# Altium footprint library Pilot.PcbLib: 39 footprints (part 1 of 3)
Each footprint in its own frame and in the unit in brackets; x right, y up, seen from the top. Pads: shape width x height; smd on the part's side, far side on the other; paste and mask are expansions set on the pad; w line width, h text height; cw(c..) or ccw(c..) is an arc to the next point about the centre after c.
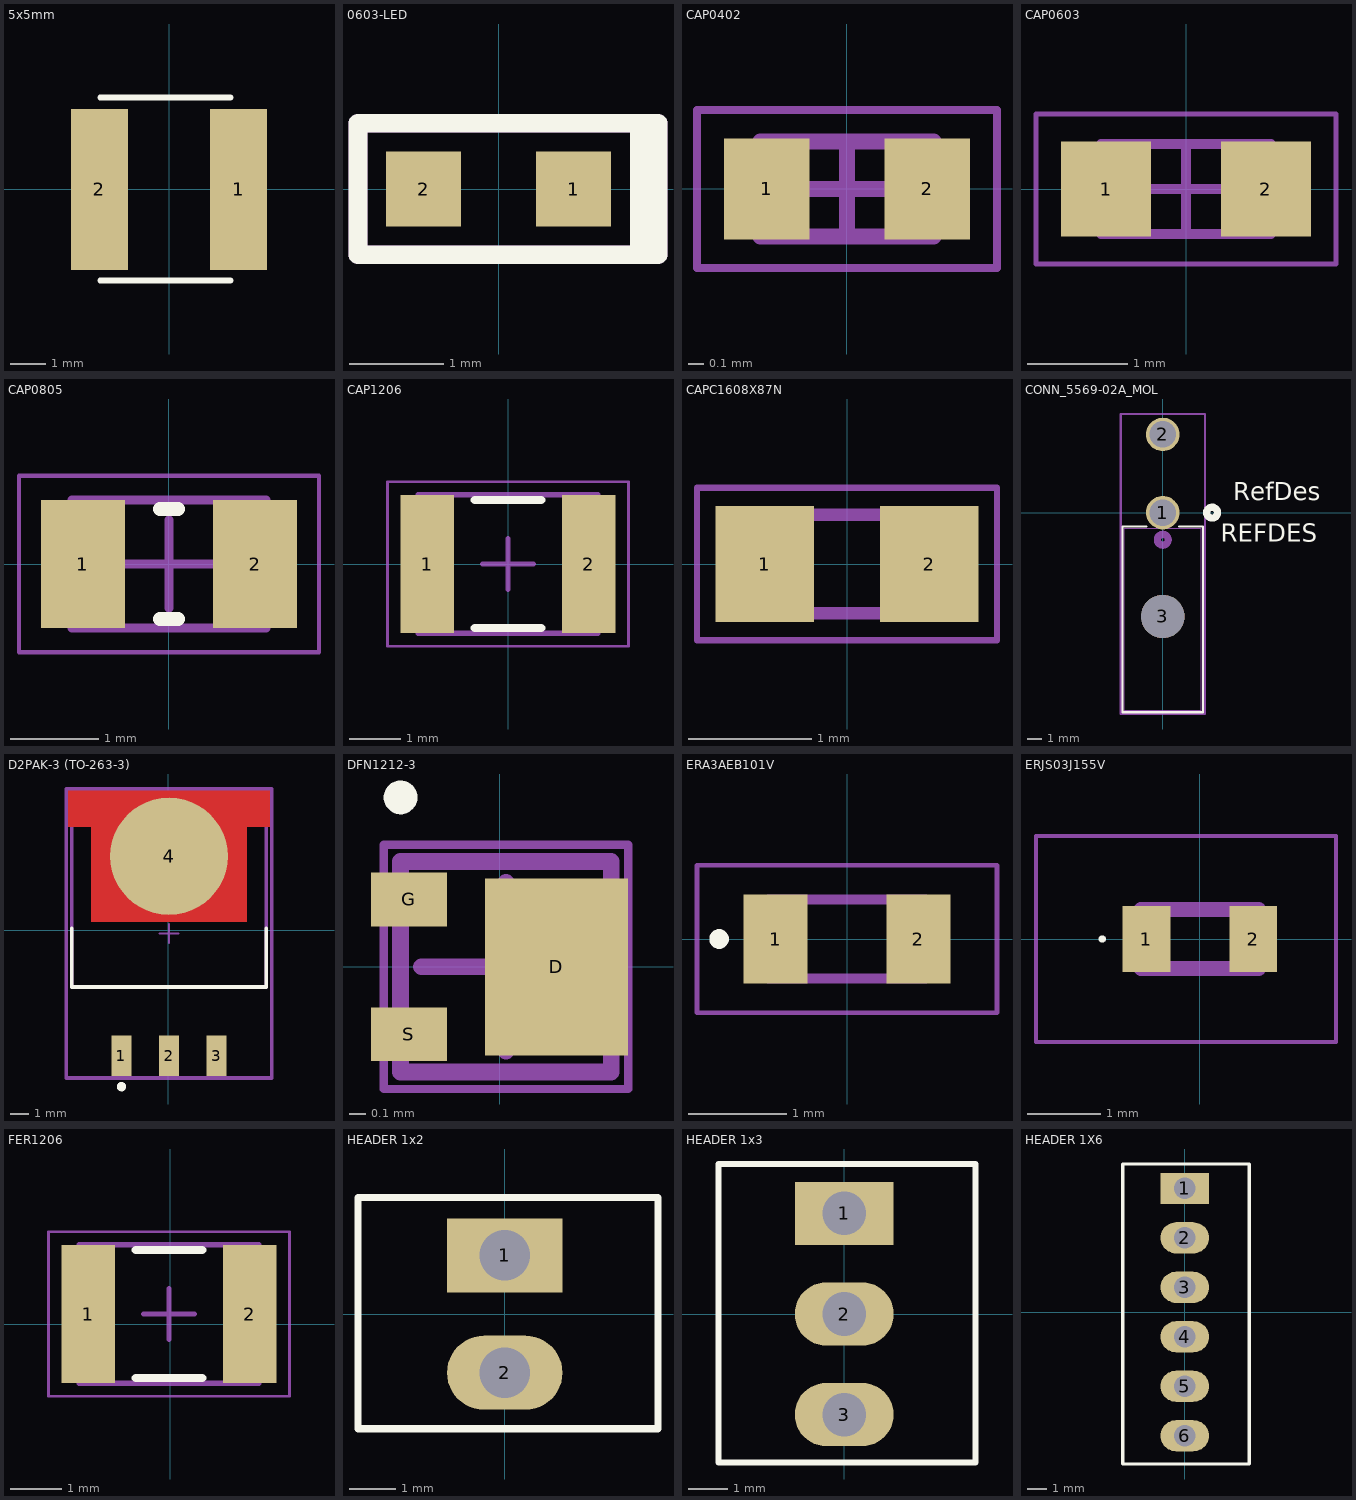
[diagram p0: the footprints below, top view; thin cyan lines are the x and y axes]

## 5x5mm [mm]
pads (2):
  rect 1.6x4.5 smd: 1(1.95,0) 2(-1.95,0)
Top Overlay:
  lines w0.16: -1.925,-2.55 1.725,-2.55 ; -1.925,2.575 1.725,2.575
3D body "Download_STP_WE-LQS-5020+(rev1).stp": height 2.01, standoff 0.01, extent -2.5,-2.5 2.5,2.5

## 0603-LED [mm]
pads (2):
  rect 0.8x0.8 smd: 1(0.8,0) 2(-0.8,0)
Top Overlay:
  rectangle: 1.4,-0.7 1.7,0.7
  lines w0.2: -1.5,-0.7 1.7,-0.7 1.7,0.7 -1.5,0.7 -1.5,-0.7
Mechanical 29:
  rectangle: 1.4,-0.7 1.7,0.7
  lines w0.2: -1.5,-0.7 1.7,-0.7 1.7,0.7 -1.5,0.7 -1.5,-0.7
  text "'.Designator'" at -1.025,-0.092 h0.7
3D body "STP_150060xS75000 (rev1).stp": height 0.7, standoff 0, extent -0.8,-0.4 0.8,0.4

## CAP0402 [mm] "Chip Capacitor, 2-Leads, Body 1.00x0.50mm, IPC Medium Density"
height 0.35
pads (2):
  rect 0.54x0.64 smd: 1(-0.508,0) 2(0.508,0)
Mechanical 13:
  lines w0.1: -0.55,-0.3 0.55,-0.3 0.55,0.3 -0.55,0.3 -0.55,-0.3
Mechanical 15:
  lines w0.05: -0.95,-0.5 0.95,-0.5 0.95,0.5 -0.95,0.5 -0.95,-0.5
  lines w0.1: -0.3,0 0.3,0 ; 0,-0.3 0,0.3
3D body "CAP0402.step": height 0.35, standoff 0, extent -0.55,-0.3 0.55,0.3

## CAP0603 [mm] "Chip Capacitor, 2-Leads, Body 1.60x0.80mm, IPC Medium Density"
height 0.55
pads (2):
  rect 0.9x0.95 smd: 1(-0.8,0) 2(0.8,0)
Mechanical 13:
  lines w0.1: -0.85,-0.45 0.85,-0.45 0.85,0.45 -0.85,0.45 -0.85,-0.45
Mechanical 15:
  lines w0.05: -1.5,-0.75 1.5,-0.75 1.5,0.75 -1.5,0.75 -1.5,-0.75
  lines w0.1: -0.45,0 0.45,0 ; 0,-0.45 0,0.45
3D body "CAP0603.step": height 0.55, standoff 0, extent -0.85,-0.45 0.85,0.45

## CAP0805 [mm] "Chip Capacitor, 2-Leads, Body 2.00x1.25mm, IPC Medium Density"
height 1.45
pads (2):
  rect 0.95x1.45 smd: 1(-0.975,0) 2(0.975,0)
Top Overlay:
  lines w0.16: -0.1,-0.625 0.1,-0.625 ; -0.1,0.625 0.1,0.625
Mechanical 13:
  lines w0.1: -1.1,-0.725 1.1,-0.725 1.1,0.725 -1.1,0.725 -1.1,-0.725
Mechanical 15:
  lines w0.05: -1.7,-1 1.7,-1 1.7,1 -1.7,1 -1.7,-1
  lines w0.1: -0.5,0 0.5,0 ; 0,-0.5 0,0.5
3D body "CAP0805.step": height 1.45, standoff 0, extent -1.1,-0.725 1.1,0.725

## CAP1206 [mm] "Chip Capacitor, 2-Leads, Body 3.20x2.50mm, IPC Medium Density"
height 2.7
pads (2):
  rect 1.05x2.7 smd: 1(-1.575,0) 2(1.575,0)
Top Overlay:
  lines w0.16: -0.65,-1.25 0.65,-1.25 ; -0.65,1.25 0.65,1.25
Top Courtyard:
  lines w0.05: -2.35,-1.6 2.35,-1.6 2.35,1.6 -2.35,1.6 -2.35,-1.6
  lines w0.1: -0.5,0 0.5,0 ; 0,-0.5 0,0.5
Top Assembly:
  lines w0.1: -1.75,-1.35 1.75,-1.35 1.75,1.35 -1.75,1.35 -1.75,-1.35
3D body "CAP1206.step": height 2.7, standoff 0, extent -1.75,-1.35 1.75,1.35

## CAPC1608X87N [mm]
pads (2):
  rect 0.8x0.94 smd: 1(-0.67,0) 2(0.67,0)
Mechanical 13:
  lines w0.1: -0.8,-0.4 -0.8,0.4 0.8,0.4 0.8,-0.4 -0.8,-0.4
Mechanical 15:
  lines w0.05: -1.22,-0.62 -1.22,0.62 1.22,0.62 1.22,-0.62 -1.22,-0.62
3D body "CBR06C408B5GAC.stp": height 0.87, standoff 0, extent -0.85,-0.455 0.85,0.445

## CONN_5569-02A_MOL [mil]
pads (3):
  round 93 / inner round 60 / far side round 93 hole 73 paste-99999 mask+0: 1(0,0) 2(0,216.54)
  round 120 / inner round 60 / far side round 120 hole 120 unplated paste-99999 mask+0: 3(0,-287.4)
Top Overlay:
  circle w20: c136.5,0 r15
  lines w6: -45.66,-38.31 -111.5,-38.31 -111.5,-552.31 111.5,-552.31 111.5,-38.31 45.66,-38.31
  text "REFDES" at 160,-80 h50
  text "RefDes" at 195,35 h50
Bottom Overlay:
  circle w20: c136.5,0 r15
Mechanical 13:
  circle w20: c0,-75 r15
  lines w1: -106.5,-547.31 -106.5,-43.31 106.5,-43.31 106.5,-547.31 -106.5,-547.31
  text "RefDes2" at 145,-160 h50
Mechanical 15:
  lines w6: -116.5,-557.31 116.5,-557.31 116.5,273.04 -116.5,273.04 -116.5,-557.31
3D body "0039300020.stp": height 448.82, standoff -141.73, extent -106.3,-548.92 122.05,235.93

## D2PAK-3 (TO-263-3) [mm]
pads (4):
  rect 1.07x2.16 smd paste+0 mask+0: 1(-2.49,-6.722) 2(0.05,-6.722) 3(2.59,-6.722)
  round 6.291 smd paste+0 mask+0: 4(0.05,3.953)
Top Layer:
  region: 5.45,7.448 -5.35,7.448 -5.35,5.538 -4.115,5.538 -4.115,0.458 4.215,0.458 4.215,5.538 5.45,5.538
Top Overlay:
  circle w0.25: c-2.49,-8.367 r0.125
  lines w0.2: -5.155,0.083 -5.155,-3.037 5.255,-3.037 5.255,0.083
Top 3D Body:
  lines w0.2: -5.155,-3.037 5.255,-3.037 5.255,5.853 -5.155,5.853 -5.155,-3.037
Board:
  lines w0.2: -5.45,-7.902 5.55,-7.902 5.55,7.548 -5.45,7.548 -5.45,-7.902
Top Assembly:
  lines w0.2: -5.45,-7.902 5.55,-7.902 5.55,7.548 -5.45,7.548 -5.45,-7.902
  text ".Designator" at 0.05,-0.178 h1
Top Component Center:
  lines w0.1: -0.45,-0.177 0.55,-0.177 ; 0.05,-0.677 0.05,0.323
3D body "IC_Texas_Instruments_LM2940CSX-5_0-NOPB_eec.STEP": height 0.25, standoff 0, extent -5.45,-7.902 5.55,7.548

## DFN1212-3 [mm] "DFN, 3-Leads, Body 1.20x1.20mm, Pitch 0.60mm, IPC High Density"
height 0.53
pads (3):
  rect 0.85x1.05 smd: D(0.337,0)
  rect 0.45x0.32 smd: G(-0.537,0.4) S(-0.537,-0.4)
Top Overlay:
  circle w0.1: c-0.587,1.005 r0.05
Mechanical 13:
  lines w0.1: -0.587,-0.625 -0.587,0.625 0.663,0.625 0.663,-0.625 -0.587,-0.625
Mechanical 15:
  lines w0.05: -0.687,-0.725 -0.687,0.725 0.763,0.725 0.763,-0.725 -0.687,-0.725
  lines w0.1: -0.462,0 0.537,0 ; 0.038,-0.5 0.038,0.5
3D body "U-DFN1212-3.STEP": height 0.53, standoff 0.01, extent -0.6,-0.6 0.6,0.6

## ERA3AEB101V [mm]
pads (2):
  rect 0.65x0.9 smd: 1(-0.725,0) 2(0.725,0)
Top Overlay:
  lines w0.1: -1.3,-0.05 ccw(c-1.3,0) -1.3,0.05 ccw(c-1.3,0) -1.3,-0.05
Mechanical 13:
  lines w0.1: -0.8,-0.4 -0.8,0.4 0.8,0.4 0.8,-0.4 -0.8,-0.4
Mechanical 15:
  lines w0.05: -1.525,-0.75 -1.525,0.75 1.525,0.75 1.525,-0.75 -1.525,-0.75
3D body "ERA-3AED204V.stp": height 0.45, standoff 0, extent -0.8,-0.4 0.8,0.4

## ERJS03J155V [mm]
pads (2):
  rect 0.65x0.9 smd: 1(-0.725,0) 2(0.725,0)
Top Overlay:
  lines w0.05: -1.35,0 cw(c-1.325,0) -1.3,0 cw(c-1.325,0) -1.35,0
Mechanical 13:
  lines w0.2: -0.8,-0.4 -0.8,0.4 0.8,0.4 0.8,-0.4 -0.8,-0.4
Mechanical 15:
  lines w0.05: -2.225,-1.4 -2.225,1.4 1.85,1.4 1.85,-1.4 -2.225,-1.4
3D body "ERJ-U03F3002V.stp": height 0.45, standoff 0, extent -0.8,-0.4 0.8,0.4

## FER1206 [mm]
pads (2):
  rect 1.05x2.7 smd: 1(-1.6,0.2) 2(1.55,0.2)
Top Overlay:
  lines w0.16: -0.675,-1.05 0.625,-1.05 ; -0.675,1.45 0.625,1.45
Top Courtyard:
  lines w0.05: -2.375,-1.4 -2.375,1.8 2.325,1.8 2.325,-1.4 -2.375,-1.4
  lines w0.1: -0.525,0.2 0.475,0.2 ; -0.025,-0.3 -0.025,0.7
Top Assembly:
  lines w0.1: -1.775,-1.15 -1.775,1.55 1.725,1.55 1.725,-1.15 -1.775,-1.15
3D body "CAP1206.step": height 2.7, standoff 0, extent -1.775,-1.15 1.725,1.55

## HEADER 1x2 [mm]
pads (2):
  rect 2.5x1.6 hole 1.1: 1(0,1.27)
  oval 2.5x1.6 hole 1.1: 2(0,-1.27)
Top Overlay:
  lines w0.16: 3.302,-2.48 -3.175,-2.48 -3.175,2.52 3.302,2.52 ; 3.315,-2.48 3.315,2.52
3D body "0022232021.stp": height 10.68, standoff -3.54, extent -3.251,-2.464 3.099,2.464

## HEADER 1x3 [mm]
pads (3):
  rect 2.5x1.6 hole 1.1: 1(0,2.54)
  oval 2.5x1.6 hole 1.1: 2(0,0) 3(0,-2.54)
Top Overlay:
  lines w0.16: 3.302,3.79 -3.175,3.79 -3.175,-3.75 3.315,-3.75 3.315,3.79

## HEADER 1X6 [mm]
pads (6):
  rect 2.5x1.6 hole 1.1: 1(0,6.35)
  oval 2.5x1.6 hole 1.1: 2(0,3.81) 3(0,1.27) 4(0,-1.27) 5(0,-3.81) 6(0,-6.35)
Top Overlay:
  lines w0.16: -3.175,0.06 -3.175,7.6 3.302,7.6 ; -3.175,0.1 -3.175,-7.8 3.315,-7.8 3.315,0.1 ; 3.315,0.06 3.315,7.6
3D body "0022272061.stp": height 11.71, standoff -3.55, extent -2.9,-7.62 2.9,7.62